# EAGLE library part DAC7800U (library burr-brown)
12-Bit Multiplying DAC
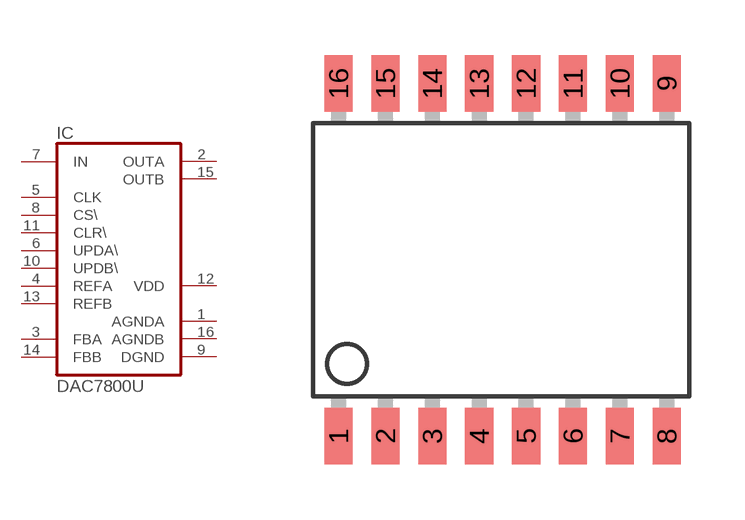
[diagram p196: symbol with the pads of SO16-1; footprint SO16-1]

Designator prefix IC

## DAC7800U  [SO16-1]
1  AGNDA  pwr
2  OUTA  out
3  FBA  pas
4  REFA  in
5  CLK  in
6  UPDA\  in
7  IN  in
8  CS\  in
9  DGND  pwr
10  UPDB\  in
11  CLR\  in
12  VDD  pwr
13  REFB  in
14  FBB  pas
15  OUTB  out
16  AGNDB  pwr

## Footprint SO16-1 (pad centres in mm)
smd 0.762 x 1.524: 1 -4.445,-4.775; 2 -3.175,-4.775; 3 -1.905,-4.775; 4 -0.635,-4.775; 5 0.635,-4.775; 6 1.905,-4.775; 7 3.175,-4.775; 8 4.445,-4.775; 9 4.445,4.775; 10 3.175,4.775; 11 1.905,4.775; 12 0.635,4.775; 13 -0.635,4.775; 14 -1.905,4.775; 15 -3.175,4.775; 16 -4.445,4.775